# Altium integrated library TLV320AIC23.IntLib: 1 symbol
Pins are listed as number, name and electrical type; pins without a type are passive.

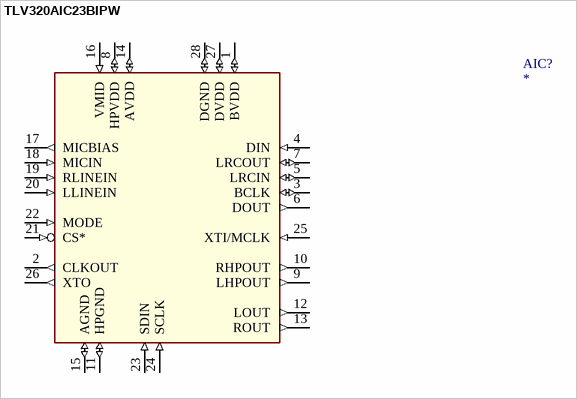
[diagram p0: symbol TLV320AIC23BIPW]

## TLV320AIC23BIPW
designator AIC?
footprint TSSOP28 (Shrink Small Outline; 28 Leads; Body Width 4.4 mm; Pitch 0.65 mm)
pins: 1 BVDD (io), 2 CLKOUT (out), 3 BCLK (io), 4 DIN (in), 5 LRCIN (io), 6 DOUT (out), 7 LRCOUT (io), 8 HPVDD (io), 9 LHPOUT (out), 10 RHPOUT (out), 11 HPGND (io), 12 LOUT (out), 13 ROUT (out), 14 AVDD (io), 15 AGND (io), 16 VMID (in), 17 MICBIAS (out), 18 MICIN (in), 19 RLINEIN (in), 20 LLINEIN (in), 21 CS* (in), 22 MODE (in), 23 SDIN (in), 24 SCLK (in), 25 XTI/MCLK (in), 26 XTO (out), 27 DVDD (io), 28 DGND (io)